# EAGLE library part INA231 (library GTA04b7)
Current sensor with I2C
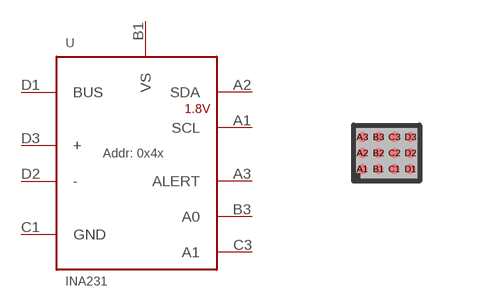
[diagram p20: symbol with the pads of R-XBGA-N12-0.4; footprint R-XBGA-N12-0.4]

Designator prefix -

## INA231YFF  [R-XBGA-N12-0.4]
A1  SCL  in
A2  SDA
A3  ALERT  oc
B1  VS  pwr
B3  A0  in
C1  GND  pwr
C3  A1  in
D1  BUS  pwr
D2  -  pwr
D3  +  pwr

## Footprint R-XBGA-N12-0.4 (pad centres in mm)
TI YFF (some size)
smd 0.25 x 0.25: A1 -0.6,-0.4; A2 -0.6,0; A3 -0.6,0.4; B1 -0.2,-0.4; B2 -0.2,0; B3 -0.2,0.4; C1 0.2,-0.4; C2 0.2,0; C3 0.2,0.4; D1 0.6,-0.4; D2 0.6,0; D3 0.6,0.4